# Altium schematic symbol library General_Controller.SchLib: 2 symbols
Pins are listed as number, name and electrical type; pins without a type are passive.

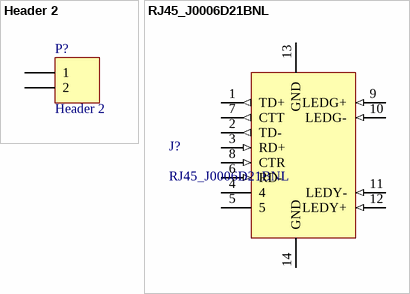
[diagram p0: symbols Header 2 to RJ45_J0006D21BNL]

## Header 2
designator P?
Header, 2-Pin; LatestRevisionDate: 17-Jul-2002; LatestRevisionNote: Re-released for DXP Platform.; Publisher: Altium Limited
footprint HDR1X2 (Connector; Header; 2 Position)
signal-integrity model Connector
pins: 1, 2

## RJ45_J0006D21BNL
designator J?
Connector Ethernet RJ45_J0006D21BNL
footprint RJ45_J0006D21BNL
pins: 1 TD+ (out), 2 TD- (out), 3 RD+ (in), 4, 5, 6 RD- (in), 7 CTT (out), 8 CTR (in), 9 LEDG+ (in), 10 LEDG- (in), 11 LEDY- (in), 12 LEDY+ (in), 13 GND, 14 GND